# Altium footprint library Diodes.PcbLib: 56 footprints (part 4 of 4)
Each footprint in its own frame and in the unit in brackets; x right, y up, seen from the top. Pads: shape width x height; smd on the part's side, far side on the other; paste and mask are expansions set on the pad; w line width, h text height; cw(c..) or ccw(c..) is an arc to the next point about the centre after c.
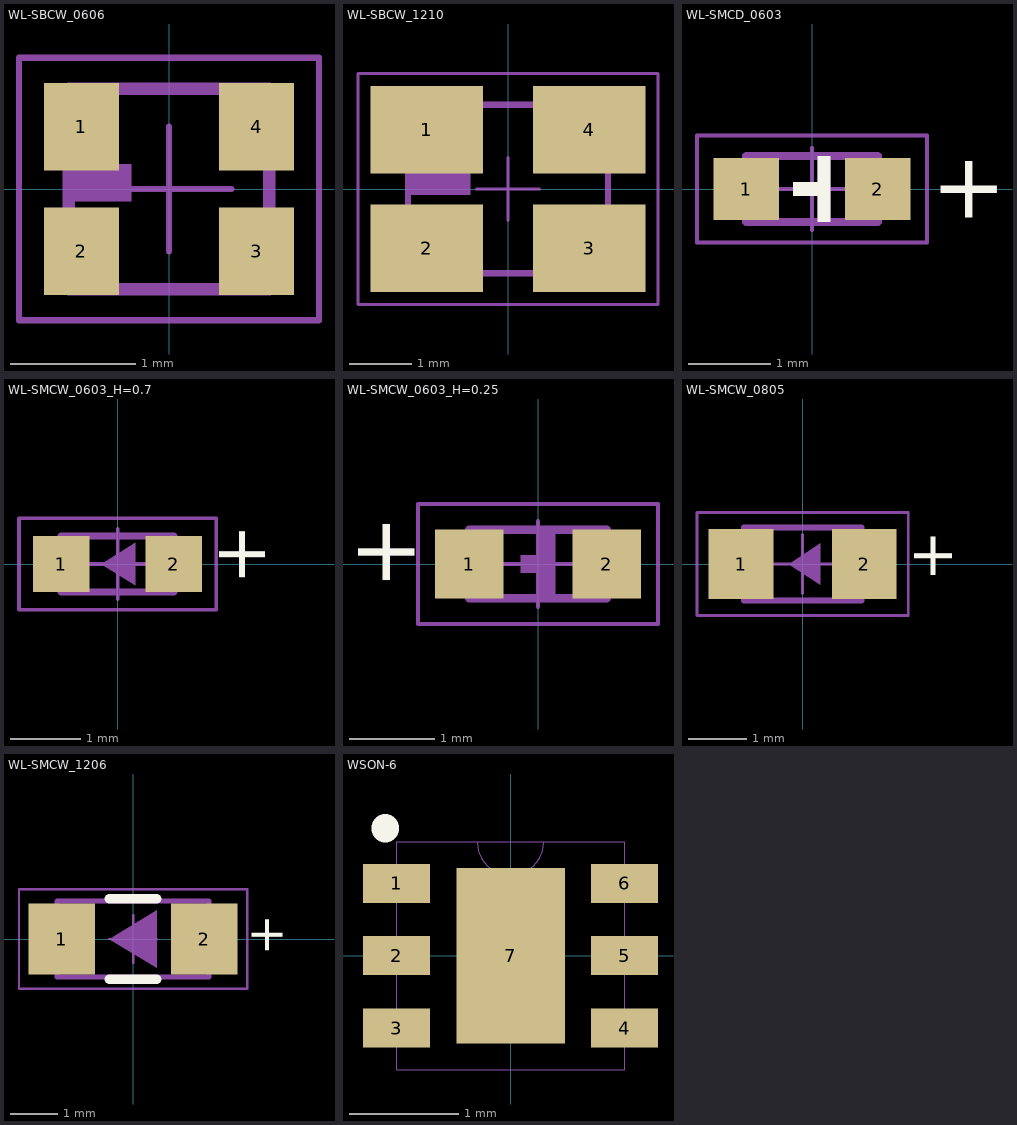
[diagram p3: the footprints below, top view; thin cyan lines are the x and y axes]

## WL-SBCW_0606 [mm] "SMD Bi-color Chip LED Waterclear, body 1.6x1.6mm"
height 0.7
pads (4):
  rect 0.6x0.7 smd: 1(-0.7,0.5) 2(-0.7,-0.5) 3(0.7,-0.5) 4(0.7,0.5)
Mechanical 13:
  rectangle: -0.85,-0.1 -0.3,0.2
  lines w0.1: -0.8,-0.8 0.8,-0.8 0.8,0.8 -0.8,0.8 -0.8,-0.8
Mechanical 15:
  lines w0.05: -0.5,0 0.5,0 ; 0,-0.5 0,0.5 ; -1.2,-1.05 -1.2,1.05 1.2,1.05 1.2,-1.05 -1.2,-1.05
3D body "WL-SBCW_0606.stp": height 0.7, standoff 0, extent -0.8,-0.8 0.8,0.8

## WL-SBCW_1210 [mm] "SMD Bi-color Chip LED Waterclear, body 3.2x2.7mm"
height 0.7
pads (4):
  rect 1.8x1.4 smd: 1(-1.3,0.95) 2(-1.3,-0.95) 3(1.3,-0.95) 4(1.3,0.95)
Mechanical 13:
  rectangle: -1.65,-0.1 -0.6,0.4
  lines w0.1: -1.6,-1.35 -1.6,1.35 1.6,1.35 1.6,-1.35 -1.6,-1.35
Mechanical 15:
  lines w0.05: -0.5,0 0.5,0 ; 0,-0.5 0,0.5 ; -2.4,-1.85 -2.4,1.85 2.4,1.85 2.4,-1.85 -2.4,-1.85
3D body "WL-SBCW_1210.stp": height 0.7, standoff 0, extent -1.6,-1.35 1.6,1.35

## WL-SMCD_0603 [mm] "SMD Mono-color Chip LED, body 1.6x0.8mm"
height 0.4
pads (2):
  rect 0.8x0.75 smd: 1(-0.8,0) 2(0.8,0)
Top Overlay:
  region: 0.22,0.4 0.22,-0.4 0.07,-0.4 0.07,-0.08 -0.23,-0.08 -0.23,0.08 0.07,0.08 0.07,0.4
  text "+" at 1.45,-0.35 h0.8
Mechanical 13:
  region: 0.22,0.4 0.22,-0.4 0.07,-0.4 0.07,-0.08 -0.23,-0.08 -0.23,0.08 0.07,0.08 0.07,0.4
  lines w0.1: -0.8,-0.4 -0.8,0.4 0.8,0.4 0.8,-0.4 -0.8,-0.4
Mechanical 15:
  lines w0.05: -0.5,0 0.5,0 ; 0,-0.5 0,0.5 ; -1.4,-0.65 -1.4,0.65 1.4,0.65 1.4,-0.65 -1.4,-0.65
3D body "STEP-WL-SMCD-0603-rev1.stp": height 0.42, standoff 0.02, extent -0.8,-0.4 0.8,0.4

## WL-SMCW_0603_H=0.7 [mm] "SMD Mono-color Chip LED, body 1.6x0.8mm"
height 0.8
pads (2):
  rect 0.8x0.8 smd: 1(-0.8,0) 2(0.8,0)
Top Overlay:
  text "+" at 2.1,-0.3 h0.76
Mechanical 13:
  region: -0.233,0 0.25,-0.3 0.25,0.3
  lines w0.1: -0.8,-0.4 0.8,-0.4 0.8,0.4 -0.8,0.4 -0.8,-0.4
Mechanical 15:
  lines w0.05: -0.5,0 0.5,0 ; 0,-0.5 0,0.5 ; -1.4,-0.65 1.4,-0.65 1.4,0.65 -1.4,0.65 -1.4,-0.65
3D body "150060xxx.stp": height 0.7, standoff 0, extent -0.8,-0.4 0.8,0.4

## WL-SMCW_0603_H=0.25 [mm] "SMD Mono-color Chip LED, body 1.6x0.8mm"
height 0.45
pads (2):
  rect 0.8x0.8 smd: 1(-0.8,0) 2(0.8,0)
Top Overlay:
  text "+" at -2.1,-0.3 h0.76
Mechanical 13:
  region: 0.2,0.4 0.2,-0.4 0,-0.4 0,-0.1 -0.2,-0.1 -0.2,0.1 0,0.1 0,0.4
  lines w0.1: -0.8,-0.4 -0.8,0.4 0.8,0.4 0.8,-0.4 -0.8,-0.4
Mechanical 15:
  lines w0.05: -0.5,0 0.5,0 ; 0,-0.5 0,0.5 ; -1.4,-0.7 -1.4,0.7 1.4,0.7 1.4,-0.7 -1.4,-0.7
3D body "150060xx75020.stp": height 0.25, standoff 0, extent -0.8,-0.4 0.8,0.4

## WL-SMCW_0805 [mm] "SMD Mono-color Chip LED, body 2.0x1.25mm"
height 0.8
pads (2):
  rect 1.1x1.2 smd: 1(-1.05,0) 2(1.05,0)
Top Overlay:
  text "+" at 2.55,-0.3 h0.76
Mechanical 13:
  region: -0.233,0 0.3,-0.35 0.3,0.35
  lines w0.1: -1,-0.625 -1,0.625 1,0.625 1,-0.625 -1,-0.625
Mechanical 15:
  lines w0.05: -0.5,0 0.5,0 ; 0,-0.5 0,0.5 ; -1.8,-0.875 -1.8,0.875 1.8,0.875 1.8,-0.875 -1.8,-0.875
3D body "150080xS75000.stp": height 0.7, standoff 0, extent -1,-0.625 1,0.625

## WL-SMCW_1206 [mm] "SMD Mono-color Chip LED, body 3.2x1.6mm"
height 0.78
pads (2):
  rect 1.4x1.5 smd: 1(-1.5,0) 2(1.5,0)
Top Overlay:
  lines w0.2: -0.5,-0.85 0.5,-0.85 ; -0.5,0.85 0.5,0.85
  text "+" at 3.15,-0.35 h0.76
Mechanical 13:
  region: -0.5,0 0.5,-0.6 0.5,0 0.5,0.6
  lines w0.1: -1.6,-0.8 1.6,-0.8 1.6,0.8 -1.6,0.8 -1.6,-0.8
Mechanical 15:
  lines w0.05: -0.5,0 0.5,0 ; 0,-0.5 0,0.5 ; -2.4,-1.05 -2.4,1.05 2.4,1.05 2.4,-1.05 -2.4,-1.05
3D body "150120xS75000.stp": height 0.68, standoff 0, extent -1.6,-0.8 1.6,0.8

## WSON-6 [mil]
pads (7):
  rect 24x14 smd: 1(-41,26) 2(-41,0) 3(-41,-26) 4(41,-26) 5(41,0) 6(41,26)
  rect 39x63 smd: 7(0,0)
Top Overlay:
  lines w9.84: -45.02,45.58 ccw(c-49.92,46) -45,46
Mechanical 4:
  lines w0: -41,-41 41,-41 ; -41,-41 -41,41 ; -41,-41 41,-41 ; -41,-41 -41,41 ; -41,41 -12,41 ; -41,41 -12,41 ; -12,41 ccw(c0,41) 12,41 ; -12,41 ccw(c0,41) 12,41 ; -12,41 12,41 ; -12,41 12,41 ; 12,41 41,41 ; 12,41 41,41 ; 41,-41 41,41 ; 41,-41 41,41
3D body "User Library-QFN6.step": height 29.53, standoff 0, extent -39.41,-39.74 39.41,39